# Altium schematic symbol library RJ45_TE_Connectivity_5406299-1.SchLib: 1 symbol
Pins are listed as number, name and electrical type; pins without a type are passive.

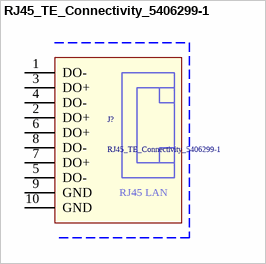
[diagram p0: symbol RJ45_TE_Connectivity_5406299-1]

## RJ45_TE_Connectivity_5406299-1
designator J?
Modular Connectors / Ethernet Connectors 1 PORT CAT 5; Supplier 1: Mouser; Supplier Part Number 1: 571-5406299-1
footprint RJ45_TE_Connectivity_5406299-1
pins: 1 DO-, 2 DO+, 3 DO+, 4 DO-, 5 DO-, 6 DO+, 7 DO+, 8 DO-, 9 GND, 10 GND
text: RJ45 LAN